# Altium schematic symbol library Team23_SchLib.SchLib: 7 symbols
Pins are listed as number, name and electrical type; pins without a type are passive.

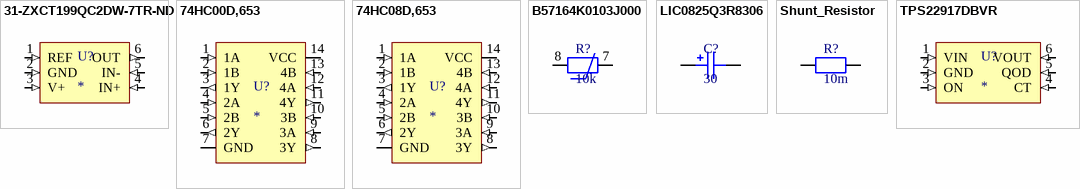
[diagram p0: symbols 31-ZXCT199QC2DW-7TR-ND to TPS22917DBVR]

## 31-ZXCT199QC2DW-7TR-ND
designator U?
Current sense amplifier SOT363
footprint SOT65P210X110-6N (SOT23, 6-Leads, Body 2.00x2.10mm, Pitch 0.65mm, IPC Medium Density)
pins: 1 REF (in), 2 GND (in), 3 V+ (in), 4 IN+ (in), 5 IN- (in), 6 OUT (out)

## 74HC00D,653
designator U?
NAND Gate IC 4 Channel 14-SO
footprint SOIC127P600X175-14N (SOIC, 14-Leads, Body 8.65x3.90mm, Pitch 1.27mm, IPC Medium Density)
pins: 1 1A (in), 2 1B (in), 3 1Y (out), 4 2A (in), 5 2B (in), 6 2Y (out), 7 GND (power), 8 3Y (out), 9 3A (in), 10 3B (in), 11 4Y (out), 12 4A (in), 13 4B (in), 14 VCC (power)

## 74HC08D,653
designator U?
AND Gate IC 4 Channel 14-SO
footprint SOIC127P600X175-14N (SOIC, 14-Leads, Body 8.65x3.90mm, Pitch 1.27mm, IPC Medium Density)
pins: 1 1A (in), 2 1B (in), 3 1Y (out), 4 2A (in), 5 2B (in), 6 2Y (out), 7 GND (power), 8 3Y (out), 9 3A (in), 10 3B (in), 11 4Y (out), 12 4A (in), 13 4B (in), 14 VCC (power)

## B57164K0103J000
designator R?, comment 10k
NTC Thermistor 10k Disc, 5.5mm Dia x 5.0mm W
footprint B57164K0103J000 (Thermistor lead spacing 5.5mm Dia x 5.0mm W)
pins: 7, 8

## LIC0825Q3R8306
designator C?, comment 30
Electrolytic capacitor 30F
pins: 9, 10

## Shunt_Resistor
designator R?, comment 10m
Current sense resistor PE1206
footprint Shunt_Resistor (Chip Resistor, 2-Leads, Body 3.20x1.60mm, IPC Medium Density)
pins: 1, 2

## TPS22917DBVR
designator U?
Power Switch/Driver 1:1 P-Channel 2A SOT-23-6
footprint SOT95P280X145-6N (SOT23, 6-Leads, Body 2.90x2.80mm, Pitch 0.95mm, IPC Medium Density)
pins: 1 VIN (in), 2 GND (in), 3 ON (in), 4 CT (in), 5 QOD (in), 6 VOUT (in)